# EAGLE library part MC74HC589ADTR2G (library Nwazet.Go)
IC SHIFT REGISTER 8BIT 16-TSSOP
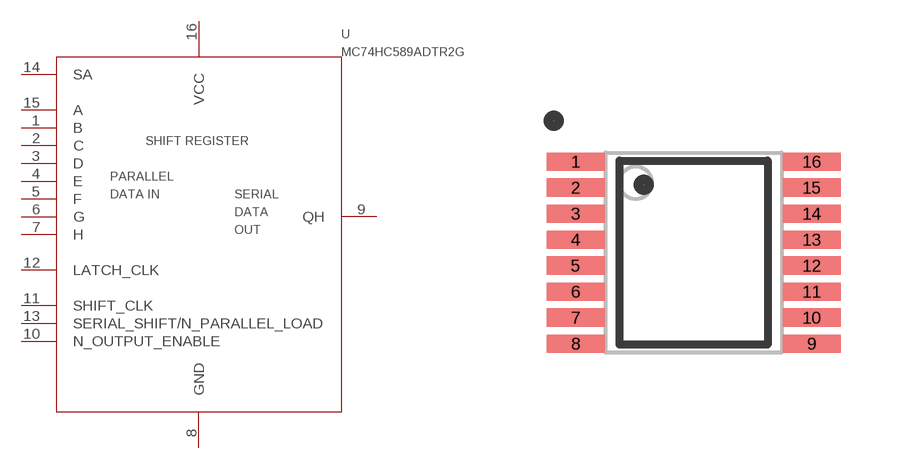
[diagram p4: symbol with the pads of MC74HC589ADTR2G; footprint MC74HC589ADTR2G]

Designator prefix -

## MC74HC589ADTR2G  [MC74HC589ADTR2G]
1  B
2  C
3  D
4  E
5  F
6  G
7  H
8  GND
9  QH
10  N_OUTPUT_ENABLE
11  SHIFT_CLK
12  LATCH_CLK
13  SERIAL_SHIFT/N_PARALLEL_LOAD
14  SA
15  A
16  VCC

## Footprint MC74HC589ADTR2G (pad centres in mm)
smd 1.45 x 0.45: 1 -2.95,2.275; 2 -2.95,1.625; 3 -2.95,0.975; 4 -2.95,0.325; 5 -2.95,-0.325; 6 -2.95,-0.975; 7 -2.95,-1.625; 8 -2.95,-2.275; 9 2.95,-2.275; 10 2.95,-1.625; 11 2.95,-0.975; 12 2.95,-0.325; 13 2.95,0.325; 14 2.95,0.975; 15 2.95,1.625; 16 2.95,2.275